# Altium footprint library Footprints.PcbLib: 19 footprints (part 2 of 2)
Each footprint in its own frame and in the unit in brackets; x right, y up, seen from the top. Pads: shape width x height; smd on the part's side, far side on the other; paste and mask are expansions set on the pad; w line width, h text height; cw(c..) or ccw(c..) is an arc to the next point about the centre after c.
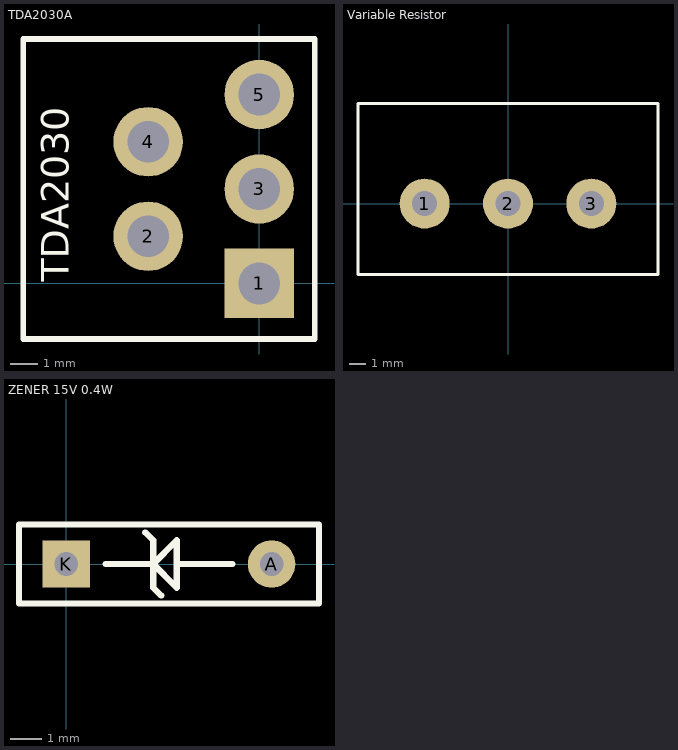
[diagram p1: the footprints below, top view; thin cyan lines are the x and y axes]

## TDA2030A [mm] "TO220-5 package"
pads (5):
  rect 2.5x2.5 hole 1.5: 1(0,0)
  round 2.5 hole 1.5: 2(-4,1.7) 3(0,3.4) 4(-4,5.1) 5(0,6.8)
Top Overlay:
  lines w0.2: -8.5,-2 2,-2 2,8.8 -8.5,8.8 -8.5,-2
  text "TDA2030" at -6.854,0.054 h1
3D body "User Library-Tda2030a (1).stp": height 22.6, standoff -3.24, extent -6,-1.6 0.297,8.7

## Variable Resistor [mm] "VR"
pads (3):
  round 3 hole 1.5: 1(-5,0) 2(0,0) 3(5,0)
Top Overlay:
  lines w0.2: -9,-4.25 -9,6 9,6 9,-4.25 -9,-4.25

## ZENER 15V 0.4W [mm]
pads (2):
  round 1.5 hole 0.75: A(6.5,0)
  rect 1.5x1.5 hole 0.75: K(0,0)
Top Overlay:
  lines w0.2: 1.25,0 2.5,0 2.75,0 ; 2.5,1 2.75,0.75 ; 5.25,0 4.25,0 ; 2.75,-0.75 2.75,0.75 ; 2.75,-0.75 3,-1 2.75,-0.75 ; 2.75,-0.75 2.75,0.75 ; 2.75,0 2.75,0.75 ; 2.75,0 3.5,0.75 ; 2.75,0 2.75,0 ; 2.75,0 3.5,-0.75 ; 3.5,-0.75 3.5,-0.75 ; 3.5,-0.75 3.5,0.75 ; 3.5,0 4.25,0 ; 3.5,0 4.25,0 ; 3.5,0 3.5,0.75 ; 4.25,0 4.25,0 ; -1.5,-1.25 -1.5,1.25 8,1.25 8,-1.25 -1.5,-1.25